# EAGLE library part XB-1-X (library lz-shield)
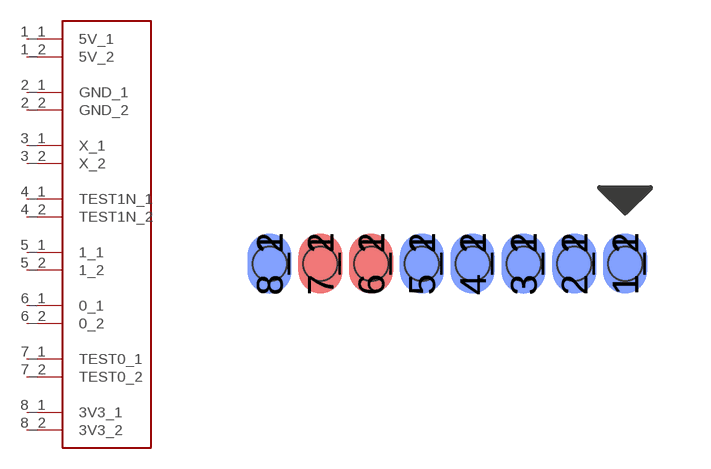
[diagram p5: symbol with the pads of XB-1-X; footprint XB-1-X]

Designator prefix -

## XB-1-X  [XB-1-X]
1_1  5V_1
1_2  5V_2
2_1  GND_1
2_2  GND_2
3_1  X_1
3_2  X_2
4_1  TEST1N_1
4_2  TEST1N_2
5_1  1_1
5_2  1_2
6_1  0_1
6_2  0_2
7_1  TEST0_1
7_2  TEST0_2
8_1  3V3_1
8_2  3V3_2

## Footprint XB-1-X (pad centres in mm)
smd 1.1 x 1.5: 1_1 3.81,0; 2_1 2.54,0; 3_1 1.27,0; 4_1 0,0; 5_1 -1.27,0; 6_1 -2.54,0; 7_1 -3.81,0; 8_1 -5.08,0
smd 1.1 x 1.5 bottom: 1_2 3.81,0; 2_2 2.54,0; 3_2 1.27,0; 4_2 0,0; 5_2 -1.27,0; 6_2 -2.54,0; 7_2 -3.81,0; 8_2 -5.08,0
hole 0.85 at -5.08,0
hole 0.85 at -3.81,0
hole 0.85 at -2.54,0
hole 0.85 at -1.27,0
hole 0.85 at 0,0
hole 0.85 at 1.27,0
hole 0.85 at 2.54,0
hole 0.85 at 3.81,0